# Altium schematic symbol library usb_connectors.SchLib: 1 symbol
Pins are listed as number, name and electrical type; pins without a type are passive.

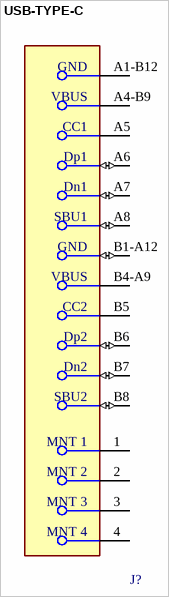
[diagram p0: symbol USB-TYPE-C]

## USB-TYPE-C
designator J?
CONN USB 2.0 TYPE-C R/A SMT; Manufacturer: Shenzhen Kinghelm Elec; Manufacturer Part Number: KH-TYPE-C-16P; Number Of Contacts: 16; ComponentLink2URL: https://datasheet.lcsc.com/lcsc/2009111434_Shenzhen-Kinghelm-Elec-KH-TYPE-C-16P_C709357.pdf; ComponentLink2Description: Datasheet; Supplier 1: LCSC; Supplier Part Number 1: C709357
footprint KH-TYPE-C-16P (USB type-c connector)
footprint KH-TYPE-C-16P-2 (USB type-c connector fixed clearance)
footprint FP-USB4105-GF-A-MFG
pins: 1, 2, 3, 4, A1-B12 GND, A4-B9 VBUS (power), A5 CC1 (power), A6 Dp1 (io), A7 Dn1 (io), A8 SBU1 (io), B1-A12 GND (io), B4-A9 VBUS (power), B5 CC2 (power), B6 Dp2 (io), B7 Dn2 (io), B8 SBU2 (io)
text: MNT 1; MNT 2; MNT 3; MNT 4